# Altium footprint library CRY1612.PcbLib: 1 footprints
Each footprint in its own frame and in the unit in brackets; x right, y up, seen from the top. Pads: shape width x height; smd on the part's side, far side on the other; paste and mask are expansions set on the pad; w line width, h text height; cw(c..) or ccw(c..) is an arc to the next point about the centre after c.
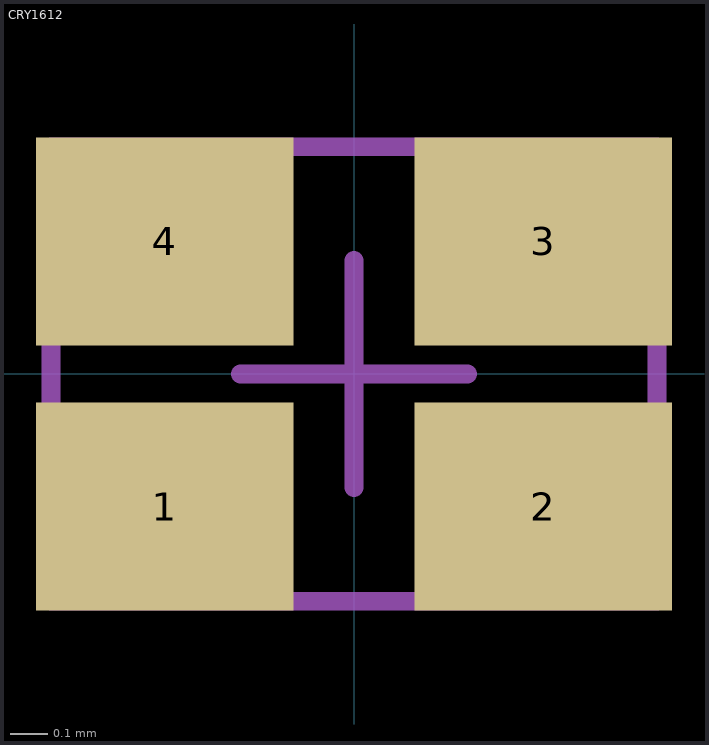
[diagram p0: the footprint, top view; thin cyan lines are the x and y axes]

## CRY1612 [mm]
height 0.4
pads (4):
  rect 0.68x0.55 smd: 1(-0.5,-0.35) 2(0.5,-0.35) 3(0.5,0.35) 4(-0.5,0.35)
Mechanical 15:
  lines w0.05: -0.3,0 0.3,0 ; 0,-0.3 0,0.3 ; -0.8,-0.6 -0.8,0.6 0.8,0.6 0.8,-0.6 -0.8,-0.6
3D body: height 0.25, standoff -0.05, extent -0.8,-0.6 0.8,0.6